# EAGLE library part X9C102* (library pot-xicor)
Digital POTENTIOMETER
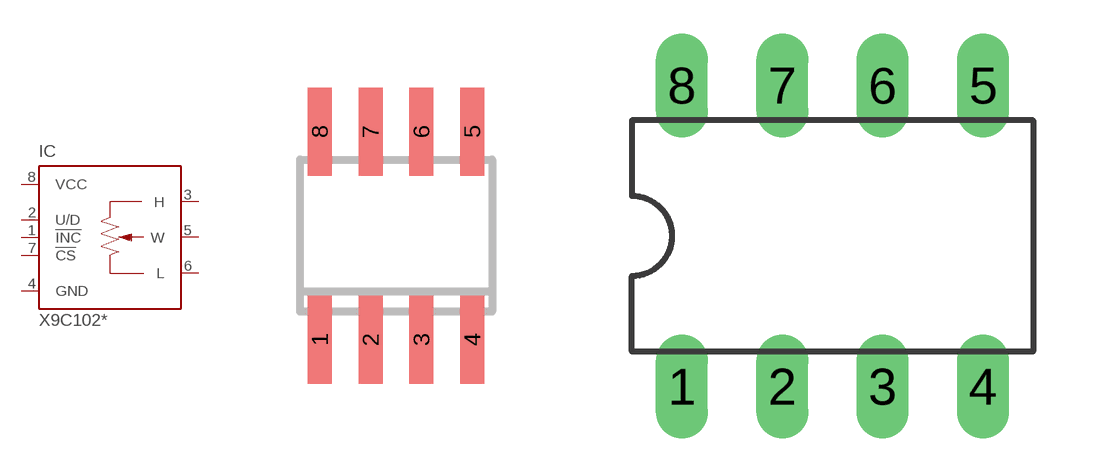
[diagram p0: symbol with the pads of SOIC08; footprints SOIC08, DIL08]

Designator prefix IC

## X9C102S (MF: INTERSIL; MPN: X9C102SIZ; OC_FARNELL: 1562072; OC_NEWARK: 79K8947)  [SOIC08]
1  !INC  in
2  U/D  in
3  H  pas
4  GND  pwr
5  W  pas
6  L  pas
7  !CS  in
8  VCC  pwr

## X9C102P (MF: INTERSIL; MPN: X9C102P; OC_FARNELL: 1216104; OC_NEWARK: 51J6928)  [DIL08]
Pads as for SOIC08

## Footprint SOIC08 (pad centres in mm)
Small Outline Package
smd 0.6 x 2.2: 1 -1.905,-2.6; 2 -0.635,-2.6; 3 0.635,-2.6; 4 1.905,-2.6; 5 1.905,2.6; 6 0.635,2.6; 7 -0.635,2.6; 8 -1.905,2.6

## Footprint DIL08 (pad centres in mm)
Dual In Line Package
drill 0.813 long: 1 -3.81,-3.81; 2 -1.27,-3.81; 3 1.27,-3.81; 4 3.81,-3.81; 5 3.81,3.81; 6 1.27,3.81; 7 -1.27,3.81; 8 -3.81,3.81